# Altium footprint library alientek_sch_lib.PcbLib: 370 footprints (part 10 of 24)
Each footprint in its own frame and in the unit in brackets; x right, y up, seen from the top. Pads: shape width x height; smd on the part's side, far side on the other; paste and mask are expansions set on the pad; w line width, h text height; cw(c..) or ccw(c..) is an arc to the next point about the centre after c.
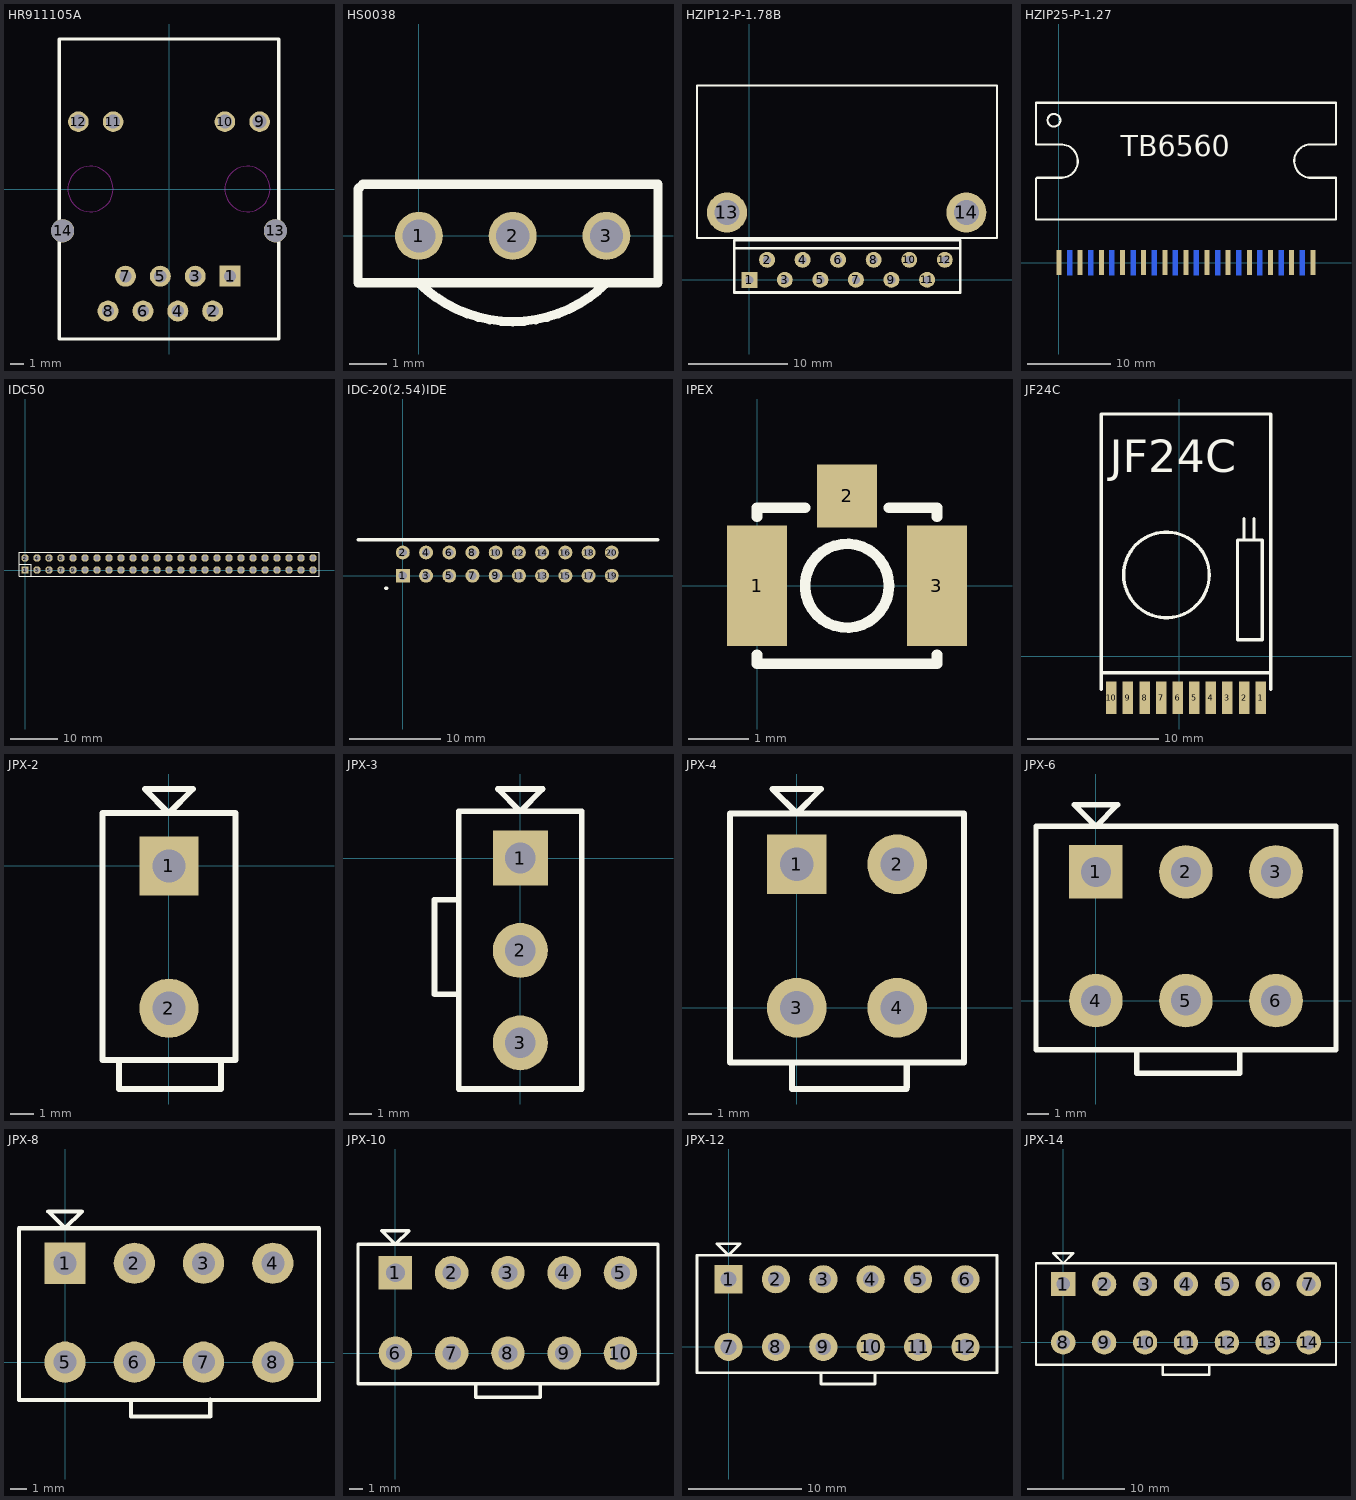
[diagram p9: the footprints below, top view; thin cyan lines are the x and y axes]

## HR911105A [mm] "NET_WORK"
height 11
pads (14):
  rect 1.524x1.524 hole 0.889: 1(4.45,-6.35)
  round 1.524 hole 0.889: 2(3.18,-8.89) 3(1.91,-6.35) 4(0.64,-8.89) 5(-0.63,-6.35) 6(-1.9,-8.89) 7(-3.17,-6.35) 8(-4.44,-8.89)
  round 1.5 hole 1.02: 9(6.6,4.9) 10(4.064,4.9) 11(-4.064,4.9) 12(-6.6,4.9)
  round 1.7 hole 1.65: 13(7.75,-3.048) 14(-7.75,-3.048)
Top Overlay:
  lines w0.254: -8,-10.922 0,-10.922 8,-10.922 8,10.922 0,10.922 -8,10.922 -8,-10.922
Keep-Out Layer:
  circle w0.051: c-5.714,0 r1.65
  circle w0.051: c5.716,0 r1.65

## HS0038 [mm]
height 2.54
pads (3):
  round 1.3 hole 0.9: 1(0,0) 2(2.54,0) 3(5.08,0)
Top Overlay:
  lines w0.254: 0,-1.27 ccw(c2.54,1.27) 5.08,-1.27 ; -1.651,-1.27 6.477,-1.27 6.477,1.397 -1.524,1.397 -1.651,1.27 -1.651,-1.27

## HZIP12-P-1.78B [mm]
height 14.8
pads (14):
  rect 1.6x1.6 hole 0.8: 1(0,0)
  round 1.6 hole 0.8: 2(1.778,2) 3(3.556,0) 4(5.334,2) 5(7.112,0) 6(8.89,2) 7(10.668,0) 8(12.446,2) 9(14.224,0) 10(16.002,2) 11(17.78,0) 12(19.558,2)
  round 4 hole 2.5: 13(-2.227,6.731) 14(21.717,6.731)
Top Overlay:
  lines w0.2: -5.227,4.191 -5.227,19.431 24.779,19.431 24.779,4.191 -5.227,4.191
  lines w0.254: -1.524,3.175 21.082,3.175 ; -1.524,-1.27 -1.524,3.937 21.082,3.937 21.082,-1.27 -1.524,-1.27

## HZIP25-P-1.27 [mm] "thick:4.57,height:14,lenth:30,pin:1.27"
height 14
pads (25):
  rect 0.6x3 smd: 1(0,0) 3(2.54,0) 5(5.08,0) 7(7.62,0) 9(10.16,0) 11(12.7,0) 13(15.24,0) 15(17.78,0) 17(20.32,0) 19(22.86,0) 21(25.4,0) 23(27.94,0) 25(30.48,0)
  rect 0.6x3 smd far side: 2(1.27,0) 4(3.81,0) 6(6.35,0) 8(8.89,0) 10(11.43,0) 12(13.97,0) 14(16.51,0) 16(19.05,0) 18(21.59,0) 20(24.13,0) 22(26.67,0) 24(29.21,0)
Top Overlay:
  circle w0.254: c-0.6,17.1 r0.762
  lines w0.254: 0.2,14.195 cw(c0.26,12.195) 0.1,10.2 -2.66,10.2 -2.76,10.1 -2.76,5.2 0.8,5.2 33.26,5.2 33.26,10.2 30,10.2 ; 0.4,14.2 -2.76,14.2 -2.76,19.2 33.26,19.2 33.26,14.2 30,14.2 ; 30.3,10.2 cw(c30.24,12.2) 30.4,14.195
  text "TB6560" at 7.4,12.8 h2.5

## IDC50 [mil]
pads (50):
  rect 62x62 hole 40: 1(0,0)
  round 62 hole 40: 2(0,100) 3(100,0) 4(100,100) 5(200,0) 6(200,100) 7(300,0) 8(300,100) 9(400,0) 10(400,100) 11(500,0) 12(500,100) 13(600,0) 14(600,100) 15(700,0) 16(700,100) 17(800,0) 18(800,100) 19(900,0) 20(900,100) 21(1000,0) 22(1000,100) 23(1100,0) 24(1100,100) 25(1200,0) 26(1200,100) 27(1300,0) 28(1300,100) 29(1400,0) 30(1400,100) 31(1500,0) 32(1500,100) 33(1600,0) 34(1600,100) 35(1700,0) 36(1700,100) 37(1800,0) 38(1800,100) 39(1900,0) 40(1900,100) 41(2000,0) 42(2000,100) 43(2100,0) 44(2100,100) 45(2200,0) 46(2200,100) 47(2300,0) 48(2300,100) 49(2400,0) 50(2400,100)
Top Overlay:
  lines w6: -50,50 50,50 50,-50 ; -50,-50 2450,-50 2450,150 -50,150 -50,-50

## IDC-20(2.54)IDE [mil]
height 104.33
pads (20):
  rect 60x60 hole 36: 1(0,0)
  round 60 hole 36: 2(0,100) 3(100,0) 4(100,100) 5(200,0) 6(200,100) 7(300,0) 8(300,100) 9(400,0) 10(400,100) 11(500,0) 12(500,100) 13(600,0) 14(600,100) 15(700,0) 16(700,100) 17(800,0) 18(800,100) 19(900,0) 20(900,100)
Top Overlay:
  lines w15: -193,155 1099,155 ; -72.48,-54 -69,-54

## IPEX [mm] "IPEX座 2.6mm*2.6mm*1.25mm"
height 1.25
pads (3):
  rect 1x2 smd: 1(0,0) 3(3,0)
  rect 1x1.05 smd: 2(1.5,1.5)
Top Overlay:
  circle w0.178: c1.5,0 r0.7
  lines w0.178: 0,-1.15 0,-1.3 3,-1.3 3,-1.15 ; 0,1.15 0,1.3 0.8,1.3 ; 2.2,1.3 3,1.3 3,1.15

## JF24C [mm]
height 2
pads (10):
  rect 0.8x2.5 smd: 1(6.223,-3.175) 2(4.953,-3.175) 3(3.683,-3.175) 4(2.413,-3.175) 5(1.143,-3.175) 6(-0.127,-3.175) 7(-1.397,-3.175) 8(-2.667,-3.175) 9(-3.937,-3.175) 10(-5.207,-3.175)
Top Overlay:
  circle w0.254: c-0.991,6.223 r3.277
  lines w0.254: -5.969,-2.54 -5.969,18.542 6.985,18.542 6.985,-2.54 ; -5.969,-1.27 6.985,-1.27 ; 4.953,10.541 4.953,8.89 5.08,8.89 ; 5.715,8.89 5.715,10.541 ; 4.445,1.27 6.35,1.27 6.35,8.89 4.445,8.89 4.445,1.27
  text "JF24C" at -5.334,14.097 h2.5

## JPX-2 [mm] "PIN:4.2*6mm;H:13mm;HOLE:1.4mm;"
height 13
pads (2):
  rect 2.5x2.5 hole 1.4: 1(0,0)
  round 2.5 hole 1.4: 2(0,-6)
Top Overlay:
  lines w0.254: -2.1,-8.3 -2.1,-9.4 2.2,-9.4 ; 2.2,-9.316 2.2,-8.2 ; -2.794,-8.186 2.8,-8.186 2.8,2.228 -2.794,2.228 -2.794,-8.186 ; -1.016,3.244 0,2.228 1.016,3.244 -1.016,3.244

## JPX-3 [mm] "PIN:4.2*6mm;H:13mm;HOLE:1.4mm;"
height 13
pads (3):
  rect 2.5x2.5 hole 1.4: 1(0,0)
  round 2.5 hole 1.4: 2(0,-4.2) 3(0,-8.4)
Top Overlay:
  lines w0.254: -3.916,-1.9 -2.8,-1.9 ; -3.9,-1.9 -3.9,-6.2 -2.8,-6.2 ; -2.794,-10.5 2.8,-10.5 2.8,2.128 -2.794,2.128 -2.794,-10.5 ; -1.016,3.144 0,2.128 1.016,3.144 -1.016,3.144

## JPX-4 [mm] "PIN:4.2*6mm;H:13mm;HOLE:1.4mm;"
height 13
pads (4):
  rect 2.5x2.5 hole 1.4: 1(0,6)
  round 2.5 hole 1.4: 2(4.2,6) 3(0,0) 4(4.2,0)
Top Overlay:
  lines w0.254: -0.2,-2.4 -0.2,-3.4 4.598,-3.4 ; 4.6,-3.316 4.6,-2.3 ; -2.794,-2.286 7,-2.286 7,8.128 -2.794,8.128 -2.794,-2.286 ; -1.016,9.144 0,8.128 1.016,9.144 -1.016,9.144

## JPX-6 [mm] "PIN:4.2*6mm;H:13mm;HOLE:1.4mm;"
height 13
pads (6):
  rect 2.5x2.5 hole 1.4: 1(0,6)
  round 2.5 hole 1.4: 2(4.2,6) 3(8.4,6) 4(0,0) 5(4.2,0) 6(8.4,0)
Top Overlay:
  lines w0.254: 1.9,-3.3 1.9,-2.3 ; 1.902,-3.4 6.7,-3.4 ; 6.7,-3.316 6.7,-2.3 ; -2.794,-2.286 11.2,-2.286 11.2,8.128 -2.794,8.128 -2.794,-2.286 ; -1.016,9.144 0,8.128 1.016,9.144 -1.016,9.144

## JPX-8 [mm] "PIN:4.2*6mm;H:13mm;HOLE:1.4mm;"
height 13
pads (8):
  rect 2.5x2.5 hole 1.4: 1(0,6)
  round 2.5 hole 1.4: 2(4.2,6) 3(8.4,6) 4(12.6,6) 5(0,0) 6(4.2,0) 7(8.4,0) 8(12.6,0)
Top Overlay:
  lines w0.254: 4,-2.3 4,-3.3 8.798,-3.3 ; 8.8,-3.3 8.8,-2.284 ; -2.794,-2.286 15.4,-2.286 15.4,8.128 -2.794,8.128 -2.794,-2.286 ; -1.016,9.144 0,8.128 1.016,9.144 -1.016,9.144

## JPX-10 [mm] "PIN:4.2*6mm;H:13mm;HOLE:1.4mm;"
height 13
pads (10):
  rect 2.5x2.5 hole 1.4: 1(0,6)
  round 2.5 hole 1.4: 2(4.2,6) 3(8.4,6) 4(12.6,6) 5(16.8,6) 6(0,0) 7(4.2,0) 8(8.4,0) 9(12.6,0) 10(16.8,0)
Top Overlay:
  lines w0.254: 6,-3.3 6,-2.284 ; 6.002,-3.3 10.8,-3.3 10.8,-2.284 ; 10.2,-3.3 10.202,-3.302 ; -2.794,-2.286 -2.794,8.128 19.6,8.128 19.6,-2.286 -2.794,-2.286 ; -1.016,9.144 1.016,9.144 0,8.128 -1.016,9.144

## JPX-12 [mm] "PIN:4.2*6mm;H:13mm;HOLE:1.4mm;"
height 13
pads (12):
  rect 2.5x2.5 hole 1.4: 1(0,6)
  round 2.5 hole 1.4: 2(4.2,6) 3(8.4,6) 4(12.6,6) 5(16.8,6) 6(21,6) 7(0,0) 8(4.2,0) 9(8.4,0) 10(12.6,0) 11(16.8,0) 12(21,0)
Top Overlay:
  lines w0.254: 8.2,-2.284 8.2,-3.3 12.998,-3.3 ; 10.2,-3.3 10.202,-3.302 ; 13,-3.3 13,-2.284 ; -2.794,-2.286 -2.794,8.128 23.8,8.128 23.8,-2.286 -2.794,-2.286 ; -1.016,9.144 1.016,9.144 0,8.128 -1.016,9.144

## JPX-14 [mm] "PIN:4.2*6mm;H:13mm;HOLE:1.4mm;"
height 13
pads (14):
  rect 2.5x2.5 hole 1.4: 1(0,6)
  round 2.5 hole 1.4: 2(4.2,6) 3(8.4,6) 4(12.6,6) 5(16.8,6) 6(21,6) 7(25.2,6) 8(0,0) 9(4.2,0) 10(8.4,0) 11(12.6,0) 12(16.8,0) 13(21,0) 14(25.2,0)
Top Overlay:
  lines w0.254: 10.2,-2.284 10.2,-3.3 10.202,-3.302 15,-3.302 15,-2.286 ; -2.794,-2.286 -2.794,8.128 28,8.128 28,-2.286 -2.794,-2.286 ; -1.016,9.144 1.016,9.144 0,8.128 -1.016,9.144